# EAGLE library part PICOBLADE_12_ (library CONNECTORs)
1.25mm pitch 1A connector. 12 way.
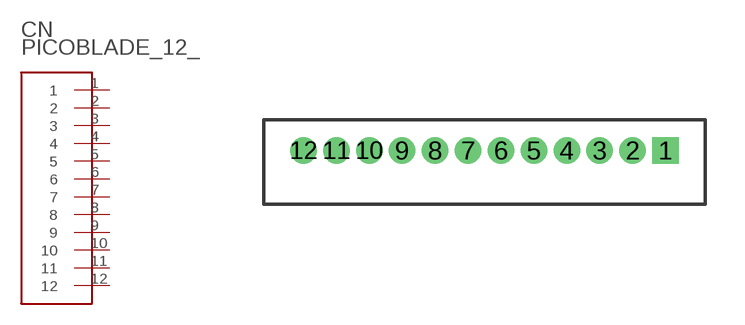
[diagram p19: symbol with the pads of MOLEX_530471210; footprint MOLEX_530471210]

Designator prefix CN

## PICOBLADE_12_TH_V (DIGIKEY: WM1741-ND; HEIGHT: 6; PRICE_PER: 0.47; VALUE: 0530471210)  [MOLEX_530471210]
1  1
2  2
3  3
4  4
5  5
6  6
7  7
8  8
9  9
10  10
11  11
12  12

## Footprint MOLEX_530471210 (pad centres in mm)
drill 0.5 square: 1 6.875,0
drill 0.5: 2 5.625,0; 3 4.375,0; 4 3.125,0; 5 1.875,0; 6 0.625,0; 7 -0.625,0; 8 -1.875,0; 9 -3.125,0; 10 -4.375,0; 11 -5.625,0; 12 -6.875,0